# EAGLE library part ADNS_3050 (library Custom_Mouse)
ADNS-3050 is a small form factor entry-level gaming optical navigation sensor. It is housed in a dual in-line package (DIP). ADNS-3050 along with ADNS-5200 clip, and HLMP_EG3E red LED form a complete and compact mouse tracking system.
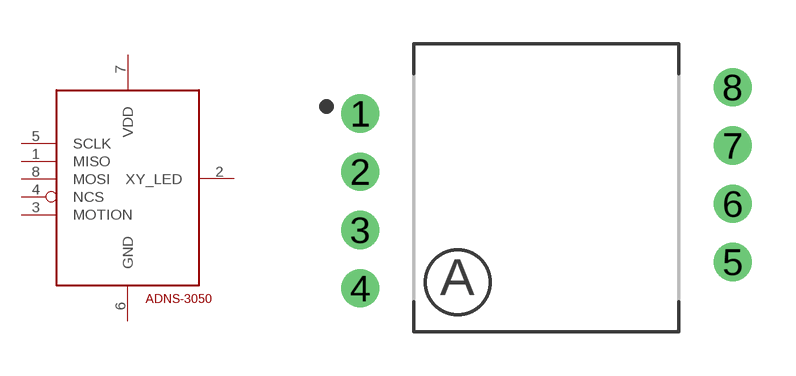
[diagram p1: symbol with the pads of DIP1279W50P200L985H450Q8B; footprint DIP1279W50P200L985H450Q8B]

Designator prefix -

## ADNS_3050THROUGH_HOLE  [DIP1279W50P200L985H450Q8B]
1  MISO
2  XY_LED
3  MOTION
4  NCS
5  SCLK
6  GND
7  VDD
8  MOSI

## Footprint DIP1279W50P200L985H450Q8B (pad centres in mm)
8-DIP, 2.00 mm (0.08 in) pitch, 12.79 mm (0.50 in) span, 9.85 X 9.05 X 4.50 mm body 8-pin DIP package with 2.00 mm (0.08 in) pitch, 12.79 mm (0.50 in) span with body size 9.85 X 9.05 X 4.50 mm
drill 0.714 pad 1.314: 1 -6.395,2.55; 2 -6.395,0.55; 3 -6.395,-1.45; 4 -6.395,-3.45; 5 6.395,-2.55; 6 6.395,-0.55; 7 6.395,1.45; 8 6.395,3.45